# Altium schematic symbol library SCH - EEPROM - 24AA025E48T.SCHLIB: 1 symbol
Pins are listed as number, name and electrical type; pins without a type are passive.

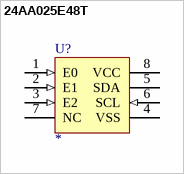
[diagram p0: symbol 24AA025E48T]

## 24AA025E48T
designator U?
pins: 1 E0 (in), 2 E1 (in), 3 E2 (in), 4 VSS (power), 5 SDA (oc), 6 SCL (in), 7 NC, 8 VCC (power)